# Altium schematic symbol library 05E_Miscellaneous.SchLib: 1 symbol
Pins are listed as number, name and electrical type; pins without a type are passive.

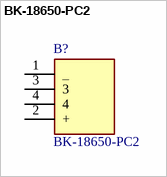
[diagram p0: symbol BK-18650-PC2]

## BK-18650-PC2
designator B?
HOLDER BATT 1/LI-ION PROTECTED; Manufacturer_Name: Memory Protection Devices; Geometry.Height: 21mm; Manufacturer_Part_Number: BK-18650-PC2; Datasheet Link: http://www.memoryprotectiondevices.com/datasheets/BK-18650-PC2-datasheet.pdf
footprint BK18650PC2
pins: 1 _, 2 +, 3, 4